# Altium schematic symbol library DRV8871DDAR.SchLib: 1 symbol
Pins are listed as number, name and electrical type; pins without a type are passive.

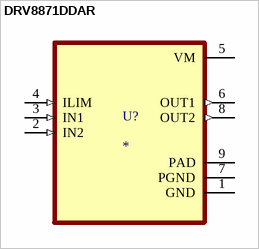
[diagram p0: symbol DRV8871DDAR]

## DRV8871DDAR
designator U?
50-V, 3.6-A H-bridge motor driver with integrated current sensing; MF: Texas Instruments; MP: DRV8871DDAR; SnapEDA_Link: https://www.snapeda.com/parts/DRV8871DDAR/Texas+Instruments/view-part/?ref=snap; Package: HSOIC-8 Texas Instruments; Value: *; Check_prices: https://www.snapeda.com/parts/DRV8871DDAR/Texas+Instruments/view-part/?ref=eda
footprint VREG_LM5017MR/NOPB
pins: 1 GND (power), 2 IN2 (in), 3 IN1 (in), 4 ILIM (in), 5 VM (power), 6 OUT1 (out), 7 PGND (power), 8 OUT2 (out), 9 PAD (power)